# Altium footprint library Footprint-Lib-ABahlmann-MISC.PcbLib: 69 footprints (part 3 of 5)
Each footprint in its own frame and in the unit in brackets; x right, y up, seen from the top. Pads: shape width x height; smd on the part's side, far side on the other; paste and mask are expansions set on the pad; w line width, h text height; cw(c..) or ccw(c..) is an arc to the next point about the centre after c.
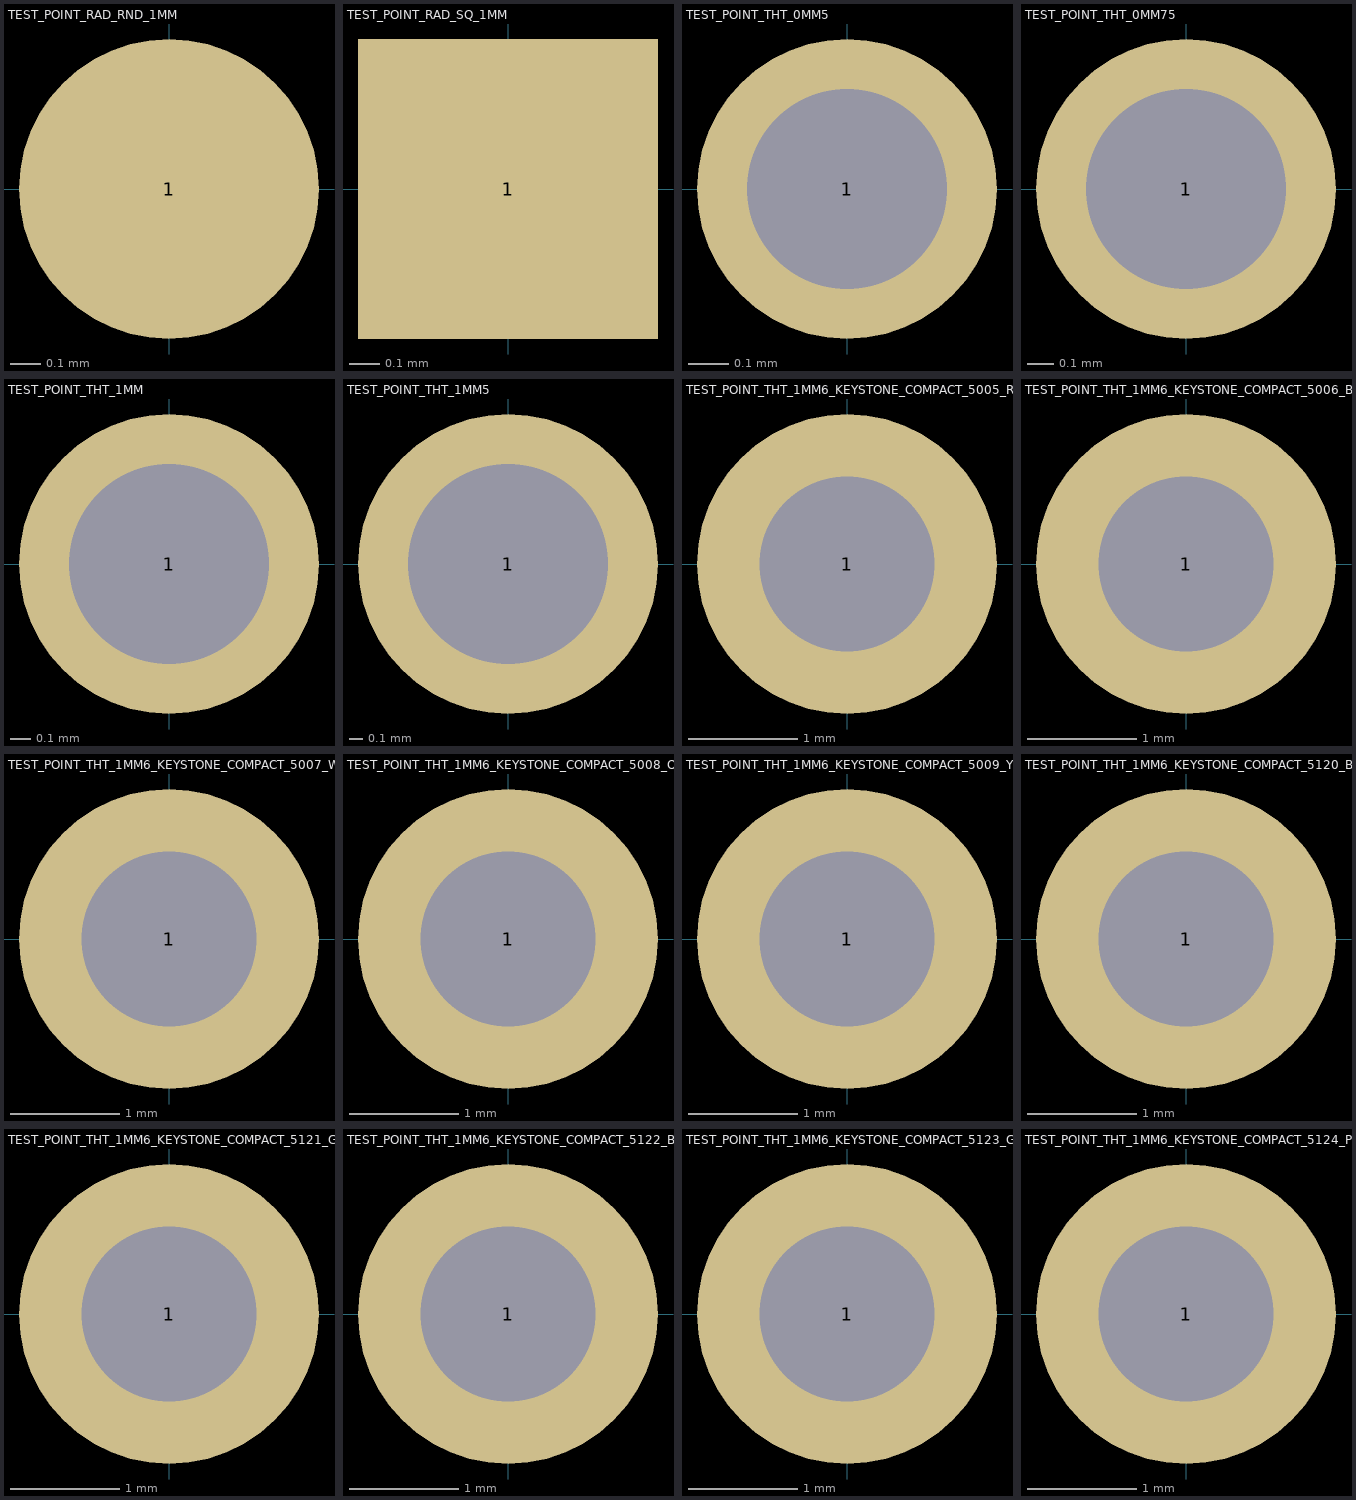
[diagram p2: the footprints below, top view; thin cyan lines are the x and y axes]

## TEST_POINT_RAD_RND_1MM [mm]
pads (1):
  round 1 smd: 1(0,0)

## TEST_POINT_RAD_SQ_1MM [mm]
pads (1):
  rect 1x1 smd: 1(0,0)

## TEST_POINT_THT_0MM5 [mm]
pads (1):
  round 0.75 hole 0.5: 1(0,0)

## TEST_POINT_THT_0MM75 [mm]
pads (1):
  round 1.125 hole 0.75: 1(0,0)

## TEST_POINT_THT_1MM [mm]
pads (1):
  round 1.5 hole 1: 1(0,0)

## TEST_POINT_THT_1MM5 [mm]
pads (1):
  round 2.25 hole 1.5: 1(0,0)

## TEST_POINT_THT_1MM6_KEYSTONE_COMPACT_5005_RED [mm] "PC Test Point, Compact Phosphor Bronze Silver Plating Through Hole Mounting Type"
pads (1):
  round 2.75 hole 1.6: 1(0,0)
3D body "Keystone 5005.step": height 5.6, standoff -3.29, extent -1.59,-1.578 1.59,1.578

## TEST_POINT_THT_1MM6_KEYSTONE_COMPACT_5006_BLACK [mm] "PC Test Point, Compact Phosphor Bronze Silver Plating Through Hole Mounting Type"
pads (1):
  round 2.75 hole 1.6: 1(0,0)
3D body "Keystone 5006.step": height 5.6, standoff -3.29, extent -1.59,-1.578 1.59,1.578

## TEST_POINT_THT_1MM6_KEYSTONE_COMPACT_5007_WHITE [mm] "PC Test Point, Compact Phosphor Bronze Silver Plating Through Hole Mounting Type"
pads (1):
  round 2.75 hole 1.6: 1(0,0)
3D body "Keystone 5007.step": height 5.6, standoff -3.29, extent -1.59,-1.578 1.59,1.578

## TEST_POINT_THT_1MM6_KEYSTONE_COMPACT_5008_ORGANGE [mm] "PC Test Point, Compact Phosphor Bronze Silver Plating Through Hole Mounting Type"
pads (1):
  round 2.75 hole 1.6: 1(0,0)
3D body "Keystone 5008.step": height 5.6, standoff -3.29, extent -1.59,-1.578 1.59,1.578

## TEST_POINT_THT_1MM6_KEYSTONE_COMPACT_5009_YELLOW [mm] "PC Test Point, Compact Phosphor Bronze Silver Plating Through Hole Mounting Type"
pads (1):
  round 2.75 hole 1.6: 1(0,0)
3D body "Keystone 5009.step": height 5.6, standoff -3.29, extent -1.59,-1.578 1.59,1.578

## TEST_POINT_THT_1MM6_KEYSTONE_COMPACT_5120_BROWN [mm] "PC Test Point, Compact Phosphor Bronze Silver Plating Through Hole Mounting Type"
pads (1):
  round 2.75 hole 1.6: 1(0,0)
3D body "Keystone 5120.step": height 5.6, standoff -3.29, extent -1.59,-1.578 1.59,1.578

## TEST_POINT_THT_1MM6_KEYSTONE_COMPACT_5121_GREEN [mm] "PC Test Point, Compact Phosphor Bronze Silver Plating Through Hole Mounting Type"
pads (1):
  round 2.75 hole 1.6: 1(0,0)
3D body "Keystone 5121.step": height 5.6, standoff -3.29, extent -1.59,-1.578 1.59,1.578

## TEST_POINT_THT_1MM6_KEYSTONE_COMPACT_5122_BLUE [mm] "PC Test Point, Compact Phosphor Bronze Silver Plating Through Hole Mounting Type"
pads (1):
  round 2.75 hole 1.6: 1(0,0)
3D body "Keystone 5122.step": height 5.6, standoff -3.29, extent -1.59,-1.578 1.59,1.578

## TEST_POINT_THT_1MM6_KEYSTONE_COMPACT_5123_GREY [mm] "PC Test Point, Compact Phosphor Bronze Silver Plating Through Hole Mounting Type"
pads (1):
  round 2.75 hole 1.6: 1(0,0)
3D body "Keystone 5123.step": height 5.59, standoff -3.3, extent -1.59,-1.578 1.59,1.578

## TEST_POINT_THT_1MM6_KEYSTONE_COMPACT_5124_PURPLE [mm] "PC Test Point, Compact Phosphor Bronze Silver Plating Through Hole Mounting Type"
pads (1):
  round 2.75 hole 1.6: 1(0,0)
3D body "Keystone 5124.step": height 5.6, standoff -3.29, extent -1.59,-1.578 1.59,1.578